# Altium footprint library Servoboard_lib.PcbLib: 3 footprints
Each footprint in its own frame and in the unit in brackets; x right, y up, seen from the top. Pads: shape width x height; smd on the part's side, far side on the other; paste and mask are expansions set on the pad; w line width, h text height; cw(c..) or ccw(c..) is an arc to the next point about the centre after c.
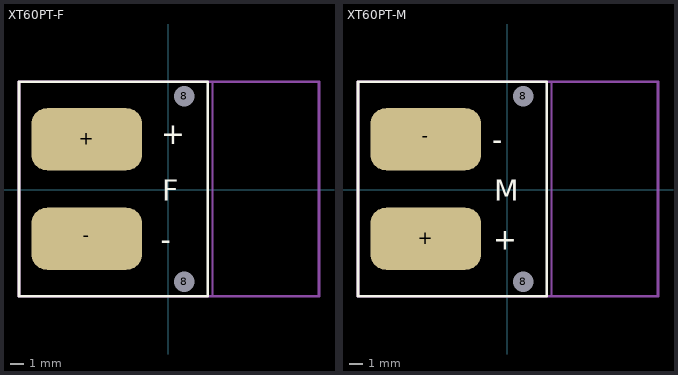
[diagram p0: the footprints below, top view; thin cyan lines are the x and y axes]

## PCBComponent_1 [mm]

## XT60PT-F [mm]
pads (4):
  rect 1x1 hole 1.5 square: 8(1.15,-6.65) 8(1.15,6.75)
  rrect50% 8x4.5 smd: +(-5.9,3.65) -(-5.9,-3.55)
Top Overlay:
  lines w0.2: -10.8,-7.7 -10.8,7.8 2.85,7.8 2.85,-7.7 -10.8,-7.7
  text "F" at -0.435,-0.816 h1.5
  text "-" at -0.55,-4.35 h1.5
  text "+" at -0.5,3.3 h1.5
Mechanical 1:
  lines w0.15: 3.2,-7.7 3.2,7.8
  lines w0.2: -10.8,-7.7 -10.8,7.8 10.9,7.8 10.9,-7.7 -10.8,-7.7
  text "PCB Edge" at 3,-1.6 h0.5
3D body "User Library-XT60PT-F 3D DRAWING.sldprt": height 9.1, standoff -0.9, extent -11.4,-7.95 10.4,7.95

## XT60PT-M [mm]
pads (4):
  rect 1x1 hole 1.5 square: 8(1.15,-6.65) 8(1.15,6.75)
  rrect50% 8x4.5 smd: +(-5.9,-3.55) -(-5.9,3.65)
Top Overlay:
  lines w0.2: -10.8,-7.7 -10.8,7.8 2.85,7.8 2.85,-7.7 -10.8,-7.7
  text "M" at -0.943,-0.816 h1.5
  text "-" at -1.1,2.9 h1.5
  text "+" at -1,-4.35 h1.5
Mechanical 1:
  lines w0.15: 3.2,-7.7 3.2,7.8
  lines w0.2: -10.8,-7.7 -10.8,7.8 10.9,7.8 10.9,-7.7 -10.8,-7.7
  text "PCB Edge" at 3,-1.6 h0.5